# EAGLE library part MAX5719GSD+ (library MAX5719GSD+)
20-Bit Voltage DAC 5V 50MHz SPI SOIC14 Source: Datasheet <https://componentsearchengine.com/Datasheets/2/MAX5719GSD .pdf>
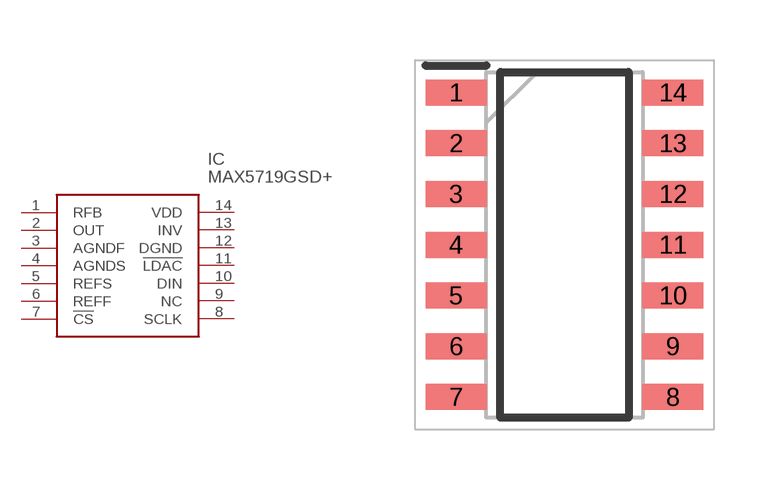
[diagram p0: symbol with the pads of SOIC127P600X175-14N; footprint SOIC127P600X175-14N]

Designator prefix IC

## MAX5719GSD+ (Description: 20-Bit Voltage DAC 5V 50MHz SPI SOIC14; Height: 1.75mm; Manufacturer_Name: Analog Devices; Manufacturer_Part_Number: MAX5719GSD+; Mouser_Part_Number: 700-MAX5719GSD+; Mouser_Price-Stock: https://www.mouser.co.uk/ProductDetail/Maxim-Integrated/MAX5719GSD%2b?qs=AfeIN4OqR0AnoTrmfGA2Mg%3D%3D)  [SOIC127P600X175-14N]
1  RFB
2  OUT
3  AGNDF
4  AGNDS
5  REFS
6  REFF
7  !CS
8  SCLK
9  NC  nc
10  DIN
11  !LDAC
12  DGND
13  INV
14  VDD

## Footprint SOIC127P600X175-14N (pad centres in mm)
SOIC 14
smd 1.525 x 0.65: 1 -2.712,3.81; 2 -2.712,2.54; 3 -2.712,1.27; 4 -2.712,0; 5 -2.712,-1.27; 6 -2.712,-2.54; 7 -2.712,-3.81; 8 2.712,-3.81; 9 2.712,-2.54; 10 2.712,-1.27; 11 2.712,0; 12 2.712,1.27; 13 2.712,2.54; 14 2.712,3.81